# Altium schematic symbol library RJ45.SCHLIB: 1 symbol
Pins are listed as number, name and electrical type; pins without a type are passive.

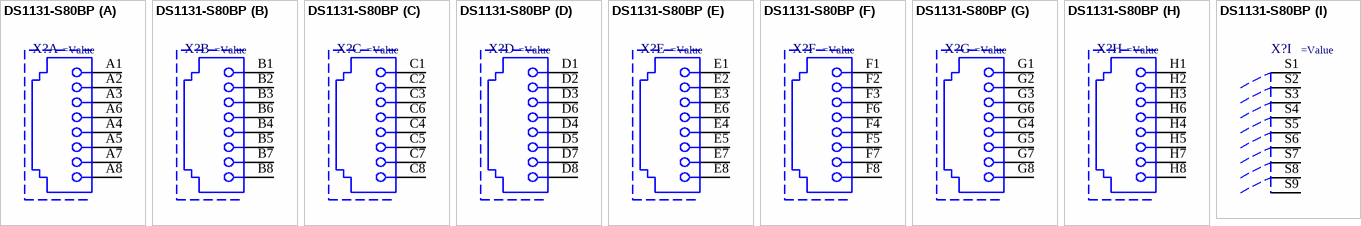
[diagram p0: symbol DS1131-S80BP]

## DS1131-S80BP
designator X?
RJ45 RJReceptacle 4x2 Plugin Ethernet Connectors/Modular Connectors (RJ45 RJ11) ROHS
part A pins: A1, A2, A3, A4, A5, A6, A7, A8
part B pins: B1, B2, B3, B4, B5, B6, B7, B8
part C pins: C1, C2, C3, C4, C5, C6, C7, C8
part D pins: D1, D2, D3, D4, D5, D6, D7, D8
part E pins: E1, E2, E3, E4, E5, E6, E7, E8
part F pins: F1, F2, F3, F4, F5, F6, F7, F8
part G pins: G1, G2, G3 F3, G4, G5, G6, G7, G8
part H pins: H1, H2, H3, H4, H5, H6, H7, H8
part I pins: S1, S2, S3, S4, S5, S6, S7, S8, S9